# EAGLE library part SOCKET_QFP100 (library akita)
Shoei's SV-065-100B, QFP 100p (0.65mm pitch), 14x20mm
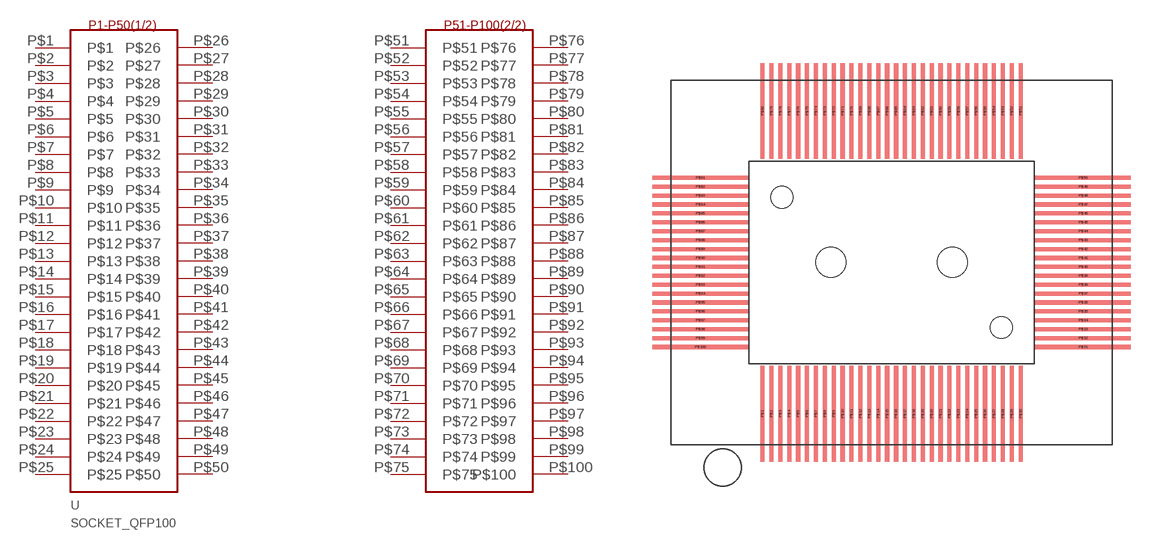
[diagram p138: symbol with the pads of SOCKET_QFP100_065MM; footprint SOCKET_QFP100_065MM]

Designator prefix -

## SOCKET_QFP100  [SOCKET_QFP100_065MM]
P$1  P$1
P$2  P$2
P$3  P$3
P$4  P$4
P$5  P$5
P$6  P$6
P$7  P$7
P$8  P$8
P$9  P$9
P$10  P$10
P$11  P$11
P$12  P$12
P$13  P$13
P$14  P$14
P$15  P$15
P$16  P$16
P$17  P$17
P$18  P$18
P$19  P$19
P$20  P$20
P$21  P$21
P$22  P$22
P$23  P$23
P$24  P$24
P$25  P$25
P$26  P$26
P$27  P$27
P$28  P$28
P$29  P$29
P$30  P$30
P$31  P$31
P$32  P$32
P$33  P$33
P$34  P$34
P$35  P$35
P$36  P$36
P$37  P$37
P$38  P$38
P$39  P$39
P$40  P$40
P$41  P$41
P$42  P$42
P$43  P$43
P$44  P$44
P$45  P$45
P$46  P$46
P$47  P$47
P$48  P$48
P$49  P$49
P$50  P$50
P$51  P$51
P$52  P$52
P$53  P$53
P$54  P$54
P$55  P$55
P$56  P$56
P$57  P$57
P$58  P$58
P$59  P$59
P$60  P$60
P$61  P$61
P$62  P$62
P$63  P$63
P$64  P$64
P$65  P$65
P$66  P$66
P$67  P$67
P$68  P$68
P$69  P$69
P$70  P$70
P$71  P$71
P$72  P$72
P$73  P$73
P$74  P$74
P$75  P$75
P$76  P$76
P$77  P$77
P$78  P$78
P$79  P$79
P$80  P$80
P$81  P$81
P$82  P$82
P$83  P$83
P$84  P$84
P$85  P$85
P$86  P$86
P$87  P$87
P$88  P$88
P$89  P$89
P$90  P$90
P$91  P$91
P$92  P$92
P$93  P$93
P$94  P$94
P$95  P$95
P$96  P$96
P$97  P$97
P$98  P$98
P$99  P$99
P$100  P$100

## Footprint SOCKET_QFP100_065MM (pad centres in mm)
Yamaichi's IC149-100-114-B5, QFP 100p socket, 20x14mm, 0.65mm piyvh
smd 0.3 x 7: P$1 -9.425,-11.05; P$2 -8.775,-11.05; P$3 -8.125,-11.05; P$4 -7.475,-11.05; P$5 -6.825,-11.05; P$6 -6.175,-11.05; P$7 -5.525,-11.05; P$8 -4.875,-11.05; P$9 -4.225,-11.05; P$10 -3.575,-11.05; P$11 -2.925,-11.05; P$12 -2.275,-11.05; P$13 -1.625,-11.05; P$14 -0.975,-11.05; P$15 -0.325,-11.05; P$16 0.325,-11.05; P$17 0.975,-11.05; P$18 1.625,-11.05; P$19 2.275,-11.05; P$20 2.925,-11.05; P$21 3.575,-11.05; P$22 4.225,-11.05; P$23 4.875,-11.05; P$24 5.525,-11.05; P$25 6.175,-11.05; P$26 6.825,-11.05; P$27 7.475,-11.05; P$28 8.125,-11.05; P$29 8.775,-11.05; P$30 9.425,-11.05; P$51 9.425,11.05; P$52 8.775,11.05; P$53 8.125,11.05; P$54 7.475,11.05; P$55 6.825,11.05; P$56 6.175,11.05; P$57 5.525,11.05; P$58 4.875,11.05; P$59 4.225,11.05; P$60 3.575,11.05; P$61 2.925,11.05; P$62 2.275,11.05; P$63 1.625,11.05; P$64 0.975,11.05; P$65 0.325,11.05; P$66 -0.325,11.05; P$67 -0.975,11.05; P$68 -1.625,11.05; P$69 -2.275,11.05; P$70 -2.925,11.05; P$71 -3.575,11.05; P$72 -4.225,11.05; P$73 -4.875,11.05; P$74 -5.525,11.05; P$75 -6.175,11.05; P$76 -6.825,11.05; P$77 -7.475,11.05; P$78 -8.125,11.05; P$79 -8.775,11.05; P$80 -9.425,11.05
smd 7 x 0.3: P$31 13.975,-6.175; P$32 13.975,-5.525; P$33 13.975,-4.875; P$34 13.975,-4.225; P$35 13.975,-3.575; P$36 13.975,-2.925; P$37 13.975,-2.275; P$38 13.975,-1.625; P$39 13.975,-0.975; P$40 13.975,-0.325; P$41 13.975,0.325; P$42 13.975,0.975; P$43 13.975,1.625; P$44 13.975,2.275; P$45 13.975,2.925; P$46 13.975,3.575; P$47 13.975,4.225; P$48 13.975,4.875; P$49 13.975,5.525; P$50 13.975,6.175; P$81 -13.975,6.175; P$82 -13.975,5.525; P$83 -13.975,4.875; P$84 -13.975,4.225; P$85 -13.975,3.575; P$86 -13.975,2.925; P$87 -13.975,2.275; P$88 -13.975,1.625; P$89 -13.975,0.975; P$90 -13.975,0.325; P$91 -13.975,-0.325; P$92 -13.975,-0.975; P$93 -13.975,-1.625; P$94 -13.975,-2.275; P$95 -13.975,-2.925; P$96 -13.975,-3.575; P$97 -13.975,-4.225; P$98 -13.975,-4.875; P$99 -13.975,-5.525; P$100 -13.975,-6.175
hole 2.2 at -4.425,0
hole 2.2 at 4.425,0
hole 1.6 at -8,4.75
hole 1.6 at 8,-4.75